# EAGLE library part CON-8 (library _connecter)
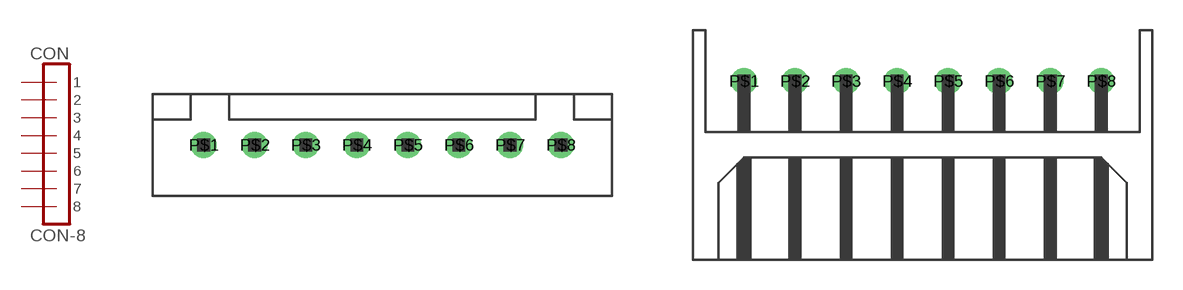
[diagram p1: symbol with the pads of 8-I; footprints 8-I, 8-L]

Designator prefix CON

## CON-8I  [8-I]
P$1  1  pas
P$2  2  pas
P$3  3  pas
P$4  4  pas
P$5  5  pas
P$6  6  pas
P$7  7  pas
P$8  8  pas

## CON-8L  [8-L]
Pads as for 8-I

## Footprint 8-I (pad centres in mm)
drill 0.8: P$1 -8.89,0; P$2 -6.35,0; P$3 -3.81,0; P$4 -1.27,0; P$5 1.27,0; P$6 3.81,0; P$7 6.35,0; P$8 8.89,0

## Footprint 8-L (pad centres in mm)
drill 0.8: P$1 -8.89,0; P$2 -6.35,0; P$3 -3.81,0; P$4 -1.27,0; P$5 1.27,0; P$6 3.81,0; P$7 6.35,0; P$8 8.89,0